# Altium footprint library USB-C-SMD_TYPE-C-6P.PcbLib: 1 footprints
Each footprint in its own frame and in the unit in brackets; x right, y up, seen from the top. Pads: shape width x height; smd on the part's side, far side on the other; paste and mask are expansions set on the pad; w line width, h text height; cw(c..) or ccw(c..) is an arc to the next point about the centre after c.
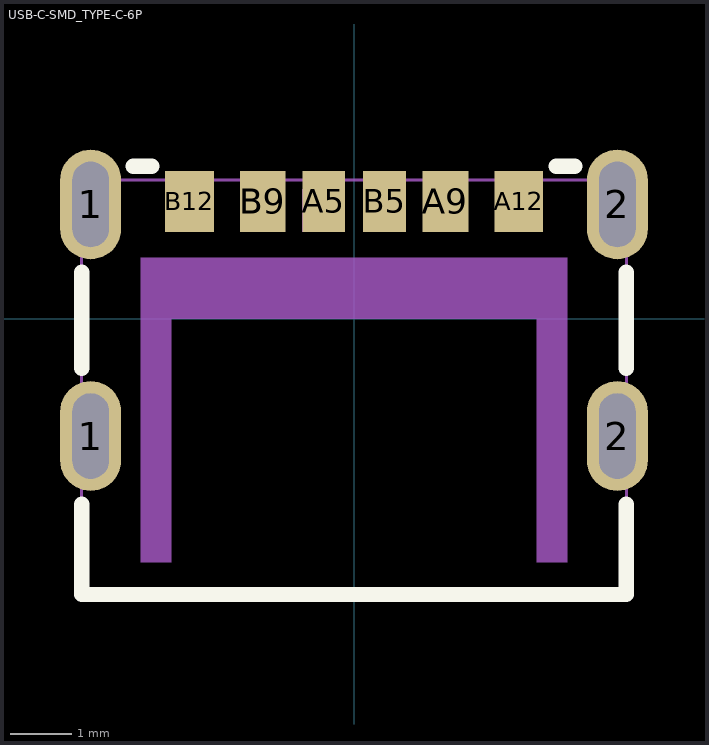
[diagram p0: the footprint, top view; thin cyan lines are the x and y axes]

## USB-C-SMD_TYPE-C-6P [mm]
pads (10):
  oval 1x1.8 / inner round 1.524 / far side round 1.524 hole 0.6 slot 1.4 at 90 deg paste+0 mask+0.05: 1(-4.32,-1.925) 1(-4.32,1.875) 2(4.32,-1.925) 2(4.32,1.875)
  rect 0.7x1 smd paste-100 mask+0.05: A5(-0.499,1.925) B5(0.501,1.925)
  rect 0.75x1 smd paste-100 mask+0.05: A9(1.501,1.925) B9(-1.499,1.925)
  rect 0.8x1 smd paste-100 mask+0.05: A12(2.701,1.925) B12(-2.699,1.925)
Top Overlay:
  lines w0.254: -4.47,-3.04 -4.47,-4.525 4.47,-4.525 4.47,-3.04 ; -4.47,-0.809 -4.47,0.76 ; -3.625,2.5 -3.318,2.5 ; 3.32,2.5 3.625,2.5 ; 4.47,-0.809 4.47,0.76
Top Paste:
  drawing of 10 lines, arcs and shapes, not listed
Mechanical 6:
  region: -3.5,-4 -3.5,1 -3,1 -3,-4
  region: 3.5,-4 3,-4 3,1 3.5,1
  region: -3,1 3,1 3,0 -3,0
Mechanical 15:
  region: -4.405,-4.525 -4.424,-4.479 -4.47,-4.46 -4.516,-4.479 -4.535,-4.525 -4.516,-4.571 -4.47,-4.59 -4.424,-4.571 -4.405,-4.525
  region: -4.47,2.275 -4.17,2.275 -4.17,1.475 -4.47,1.475
  region: -4.47,-1.525 -4.17,-1.525 -4.17,-2.325 -4.47,-2.325
  region: 4.17,-1.525 4.47,-1.525 4.47,-2.325 4.17,-2.325
  region: 4.17,2.275 4.47,2.275 4.47,1.475 4.17,1.475
  region: -3.049,2.125 -2.349,2.125 -2.349,1.425 -3.049,1.425
  region: -1.849,2.125 -1.149,2.125 -1.149,1.425 -1.849,1.425
  region: -0.849,2.125 -0.149,2.125 -0.149,1.425 -0.849,1.425
  region: 0.151,2.125 0.851,2.125 0.851,1.425 0.151,1.425
  region: 1.151,2.125 1.851,2.125 1.851,1.425 1.151,1.425
  region: 2.351,2.125 3.051,2.125 3.051,1.425 2.351,1.425
  lines w0.051: -4.47,-4.525 -4.47,2.275 4.47,2.275 4.47,-4.525 -4.47,-4.525